# Altium footprint library 1-1734028-1.PcbLib: 1 footprints
Each footprint in its own frame and in the unit in brackets; x right, y up, seen from the top. Pads: shape width x height; smd on the part's side, far side on the other; paste and mask are expansions set on the pad; w line width, h text height; cw(c..) or ccw(c..) is an arc to the next point about the centre after c.
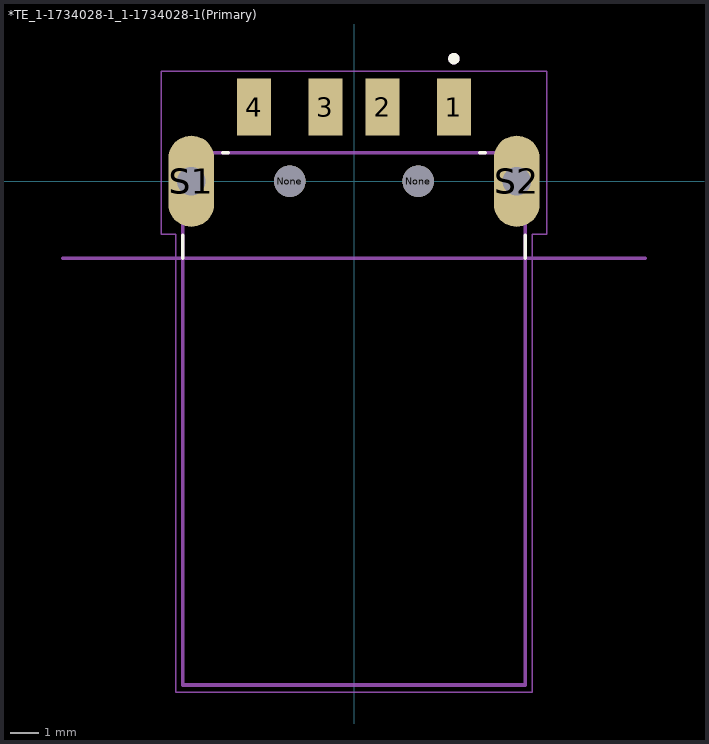
[diagram p0: the footprint, top view; thin cyan lines are the x and y axes]

## *TE_1-1734028-1_1-1734028-1(Primary) [mm]
pads (8):
  rect 1.2x2 smd: 1(3.5,2.6) 2(1,2.6) 3(-1,2.6) 4(-3.5,2.6)
  round 1.1 hole 1.1 unplated: None(-2.25,0) None(2.25,0)
  oval 1.6x3.2 hole 1: S1(-5.7,0) S2(5.7,0)
Top Overlay:
  circle w0.2: c3.499,4.294 r0.1
  lines w0.127: -6,-2.7 -6,-1.9 ; -4.6,1 -4.4,1 ; 4.4,1 4.6,1 ; 6,-2.7 6,-1.9
Mechanical 1:
  lines w0: -6.2,-0.75 ccw(c-5.7,-0.75) -5.2,-0.75 -5.2,0.75 ccw(c-5.7,0.75) -6.2,0.75 -6.2,-0.75 ; 5.2,-0.75 ccw(c5.7,-0.75) 6.2,-0.75 6.2,0.75 ccw(c5.7,0.75) 5.2,0.75 5.2,-0.75
Mechanical 4:
  circle w0.2: c3.499,4.294 r0.1
  circle w0.2: c3.499,4.294 r0.1
  lines w0.127: -6,-17.65 -6,-2.7 ; -6,-17.65 6,-17.65 ; -6,-17.65 -6,-2.7 ; -6,-17.65 6,-17.65 ; -6,-2.7 -6,1 ; -6,-2.7 6,-2.7 ; -6,-2.7 -10.2,-2.7 -6,-2.7 ; -6,-2.7 6,-2.7 ; -6,-2.7 -6,1 ; -6,-2.7 6,-2.7 ; -6,-2.7 6,-2.7 ; -6,1 6,1 ; -6,1 6,1 ; 6,-17.65 6,-2.7 ; 6,-17.65 6,-2.7 ; 6,-2.7 6,1 ; 6,-2.7 10.2,-2.7 6,-2.7 ; 6,-2.7 6,1
  text "PCB EDGE" at 7.2,-2.85 h1.88
  text "PCB EDGE" at 7.2,-2.85 h1.88
Mechanical 16:
  lines w0.05: -6.75,-1.85 -6.75,3.85 6.75,3.85 6.75,-1.85 6.25,-1.85 6.25,-17.9 -6.25,-17.9 -6.25,-1.85 -6.75,-1.85